# Altium footprint library Semtech_Footprints.PcbLib: 1 footprints
Each footprint in its own frame and in the unit in brackets; x right, y up, seen from the top. Pads: shape width x height; smd on the part's side, far side on the other; paste and mask are expansions set on the pad; w line width, h text height; cw(c..) or ccw(c..) is an arc to the next point about the centre after c.
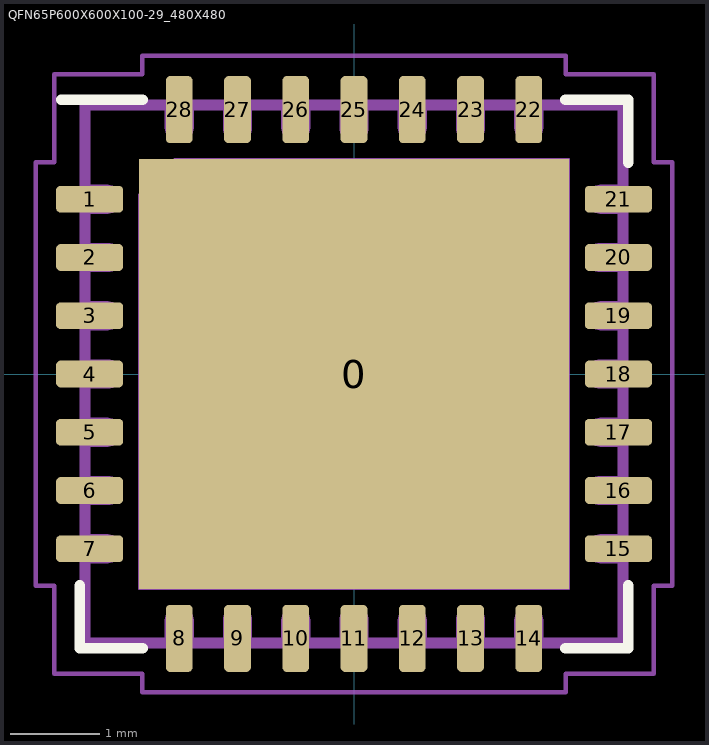
[diagram p0: the footprint, top view; thin cyan lines are the x and y axes]

## QFN65P600X600X100-29_480X480 [mm] "QFN Recommended Land Pattern SX1272/73"
height 1
pads (29):
  rect 4.8x4.8 smd paste-4.8: 0(0,0)
  rrect35% 0.75x0.3 smd: 1(-2.95,1.95) 2(-2.95,1.3) 3(-2.95,0.65) 4(-2.95,0) 5(-2.95,-0.65) 6(-2.95,-1.3) 7(-2.95,-1.95) 15(2.95,-1.95) 16(2.95,-1.3) 17(2.95,-0.65) 18(2.95,0) 19(2.95,0.65) 20(2.95,1.3) 21(2.95,1.95)
  rrect35% 0.3x0.75 smd: 8(-1.95,-2.95) 9(-1.3,-2.95) 10(-0.65,-2.95) 11(0,-2.95) 12(0.65,-2.95) 13(1.3,-2.95) 14(1.95,-2.95) 22(1.95,2.95) 23(1.3,2.95) 24(0.65,2.95) 25(0,2.95) 26(-0.65,2.95) 27(-1.3,2.95) 28(-1.95,2.95)
Top Overlay:
  lines w0.12: -3.265,3.06 -2.36,3.06 ; -3.06,-2.36 -3.06,-3.06 -2.36,-3.06 ; 2.36,-3.06 3.06,-3.06 3.06,-2.36 ; 2.36,3.06 3.06,3.06 3.06,2.36
Top Paste:
  region: 2.05,-2.05 0.35,-2.05 0.35,-0.35 2.05,-0.35
  region: 2.05,0.35 0.35,0.35 0.35,2.05 2.05,2.05
  region: -0.35,-2.05 -2.05,-2.05 -2.05,-0.35 -0.35,-0.35
  region: -0.35,0.35 -2.05,0.35 -2.05,2.05 -0.35,2.05
Mechanical 11:
  lines w0.12: 2.975,-3 3,-2.975 ; -3,-3 3,-3 3,3 -3,3 -3,-3
Mechanical 12:
  lines w0.025: -3,-2.1 -2.746,-2.1 ccw(c-2.746,-1.95) -2.746,-1.8 -3,-1.8 ; -3,-1.45 -2.746,-1.45 ccw(c-2.746,-1.3) -2.746,-1.15 -3,-1.15 ; -3,-0.8 -2.746,-0.8 ccw(c-2.746,-0.65) -2.746,-0.5 -3,-0.5 ; -3,-0.15 -2.746,-0.15 ccw(c-2.746,0) -2.746,0.15 -3,0.15 ; -3,0.5 -2.746,0.5 ccw(c-2.746,0.65) -2.746,0.8 -3,0.8 ; -3,1.15 -2.746,1.15 ccw(c-2.746,1.3) -2.746,1.45 -3,1.45 ; -3,1.8 -2.746,1.8 ccw(c-2.746,1.95) -2.746,2.1 -3,2.1 ; -2.1,-3 -2.1,-2.746 cw(c-1.95,-2.746) -1.8,-2.746 -1.8,-3 ; -2.1,3 -2.1,2.746 ccw(c-1.95,2.746) -1.8,2.746 -1.8,3 ; -1.45,-3 -1.45,-2.746 cw(c-1.3,-2.746) -1.15,-2.746 -1.15,-3 ; -1.45,3 -1.45,2.746 ccw(c-1.3,2.746) -1.15,2.746 -1.15,3 ; -0.8,-3 -0.8,-2.746 cw(c-0.65,-2.746) -0.5,-2.746 -0.5,-3 ; -0.8,3 -0.8,2.746 ccw(c-0.65,2.746) -0.5,2.746 -0.5,3 ; -0.15,-3 -0.15,-2.746 cw(c0,-2.746) 0.15,-2.746 0.15,-3 ; -0.15,3 -0.15,2.746 ccw(c0,2.746) 0.15,2.746 0.15,3 ; 0.5,-3 0.5,-2.746 cw(c0.65,-2.746) 0.8,-2.746 0.8,-3 ; 0.5,3 0.5,2.746 ccw(c0.65,2.746) 0.8,2.746 0.8,3 ; 1.15,-3 1.15,-2.746 cw(c1.3,-2.746) 1.45,-2.746 1.45,-3 ; 1.15,3 1.15,2.746 ccw(c1.3,2.746) 1.45,2.746 1.45,3 ; 1.8,-3 1.8,-2.746 cw(c1.95,-2.746) 2.1,-2.746 2.1,-3 ; 1.8,3 1.8,2.746 ccw(c1.95,2.746) 2.1,2.746 2.1,3 ; 3,-2.1 2.746,-2.1 cw(c2.746,-1.95) 2.746,-1.8 3,-1.8 ; 3,-1.45 2.746,-1.45 cw(c2.746,-1.3) 2.746,-1.15 3,-1.15 ; 3,-0.8 2.746,-0.8 cw(c2.746,-0.65) 2.746,-0.5 3,-0.5 ; 3,-0.15 2.746,-0.15 cw(c2.746,0) 2.746,0.15 3,0.15 ; 3,0.5 2.746,0.5 cw(c2.746,0.65) 2.746,0.8 3,0.8 ; 3,1.15 2.746,1.15 cw(c2.746,1.3) 2.746,1.45 3,1.45 ; 3,1.8 2.746,1.8 cw(c2.746,1.95) 2.746,2.1 3,2.1 ; -2.4,2 -2,2.4 2.4,2.4 2.4,-2.4 -2.4,-2.4 -2.4,2 ; -2.4,2 -2.4,2 ; -3,-3 -3,3 3,3 3,-3 -3,-3
Mechanical 15:
  circle w0.05: c0,0 r0.25
  lines w0.05: -0.35,0 0.35,0 ; 0,-0.35 0,0.35 ; -3.55,-2.36 -3.55,2.36 -3.345,2.36 -3.345,3.345 -2.36,3.345 -2.36,3.55 2.36,3.55 2.36,3.345 3.345,3.345 3.345,2.36 3.55,2.36 3.55,-2.36 3.345,-2.36 3.345,-3.345 2.36,-3.345 2.36,-3.55 -2.36,-3.55 -2.36,-3.345 -3.345,-3.345 -3.345,-2.36 -3.55,-2.36
Mechanical 16:
  text "'.Designator'" at 0,0 h1.2
3D body "QFN29P65_600X600X100L40X30T480.STEP": height 1, standoff 0, extent -3.05,-3.05 3.05,3.05